# Altium schematic symbol library R_0603.SchLib: 1 symbol
Pins are listed as number, name and electrical type; pins without a type are passive.

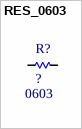
[diagram p0: symbol RES_0603]

## RES_0603
designator R?, comment ?  Package: 0603
75V Thick Film Resistors 0603 Chip Resistor - Surface Mount ROHS; Manufacturer: *; Manufacturer Part: *; LCSC: *; Value: ?; ComponentLink1Description: Datasheet; ComponentLink1URL: https://www.mouser.vn/datasheet/2/447/PYu_RT_1_to_0_01_RoHS_L_12-3003070.pdf
footprint R0603
pins: 1, 2